# EAGLE library part CLN6A (library GTA04b7)
Cree® CLN6A-WKW/MKW High Power LEDs
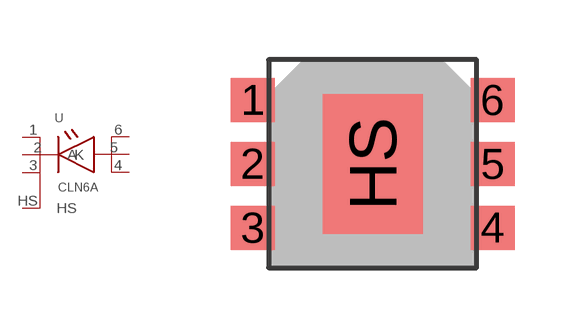
[diagram p10: symbol with the pads of CLN6A; footprint CLN6A]

Designator prefix -

## CLN6A  [CLN6A]
1  K  in
2  K  in
3  K  in
4  A  pwr
5  A  pwr
6  A  pwr
HS  HS  in

## Footprint CLN6A (pad centres in mm)
Cree White LEDs
smd 1.1 x 1.1: 1 -3,1.6; 2 -3,0; 3 -3,-1.6; 4 3,-1.6; 5 3,0; 6 3,1.6
smd 2.5 x 3.5: HS 0,0